# Altium footprint library MSE16.PcbLib: 1 footprints
Each footprint in its own frame and in the unit in brackets; x right, y up, seen from the top. Pads: shape width x height; smd on the part's side, far side on the other; paste and mask are expansions set on the pad; w line width, h text height; cw(c..) or ccw(c..) is an arc to the next point about the centre after c.
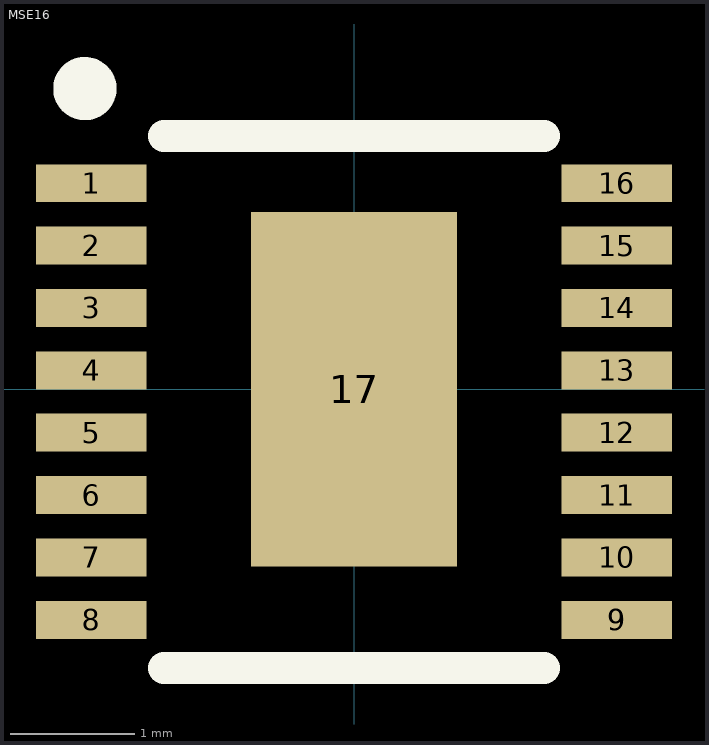
[diagram p0: the footprint, top view; thin cyan lines are the x and y axes]

## MSE16 [mil] "Footprint for the LT3029MSE"
pads (18):
  rect 35x12 smd: 1(-83,65.1) 2(-83,45.4) 3(-83,25.7) 4(-83,6) 5(-83,-13.7) 6(-83,-33.4) 7(-83,-53.1) 8(-83,-72.8) 9(83,-72.8) 9(83,-72.8) 10(83,-53.1) 11(83,-33.4) 12(83,-13.7) 13(83,6) 14(83,25.7) 15(83,45.4) 16(83,65.1)
  rect 65x112 smd paste-50: 17(0,0)
Top Overlay:
  circle w10: c-85,95 r5
  lines w10: -60,-88 60,-88 ; -60,80 60,80
Top Paste:
  rectangle: -25,10 25,50
  rectangle: -25,-50 25,-10
3D body: height 43.31, standoff 1.97, extent -61,-84.71 61.05,76.71